# Altium footprint library SOIC-8_INV_HO2.8-1B.PcbLib: 1 footprints
Each footprint in its own frame and in the unit in brackets; x right, y up, seen from the top. Pads: shape width x height; smd on the part's side, far side on the other; paste and mask are expansions set on the pad; w line width, h text height; cw(c..) or ccw(c..) is an arc to the next point about the centre after c.
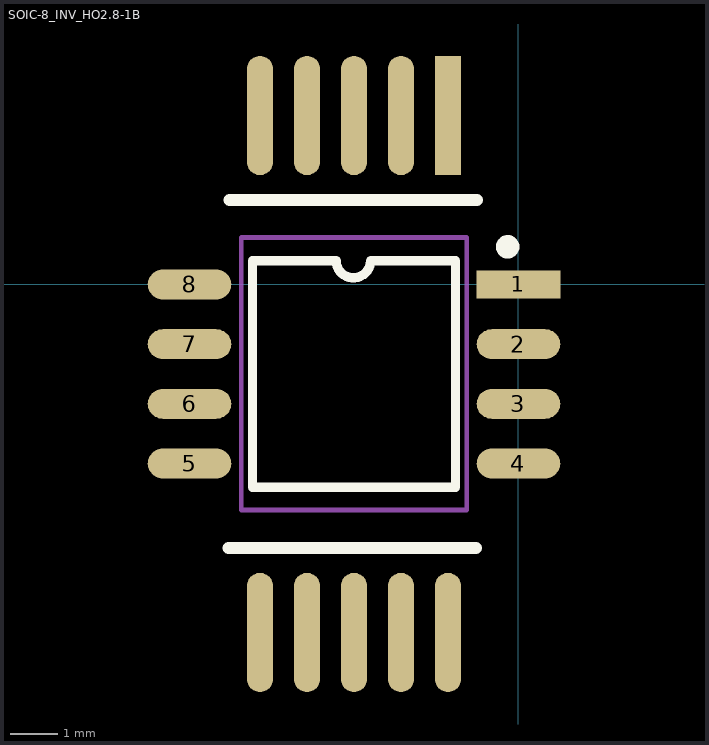
[diagram p0: the footprint, top view; thin cyan lines are the x and y axes]

## SOIC-8_INV_HO2.8-1B [mm]
pads (18):
  rect 1.778x0.6 smd: 1(0,0)
  oval 1.778x0.635 smd: 2(0,-1.27) 3(0,-2.54) 4(0,-3.81) 5(-7,-3.81) 6(-7,-2.54) 7(-7,-1.27) 8(-7,0)
  oval 0.559x2.54 smd: ""(-5.5,-7.405) ""(-5.5,3.595) ""(-4.5,-7.405) ""(-4.5,3.595) ""(-3.5,-7.405) ""(-3.5,3.595) ""(-2.5,-7.405) ""(-2.5,3.595) ""(-1.5,-7.405)
  rect 0.559x2.54 smd: ""(-1.5,3.595)
Top Overlay:
  circle w0.25: c-0.23,0.801 r0.125
  lines w0.2: -3.147,0.508 cw(c-3.514,0.508) -3.881,0.508 -5.659,0.508 -5.659,-4.318 -1.341,-4.318 -1.341,0.508 -3.119,0.508
  lines w0.254: -6.17,-5.605 -0.9,-5.605 ; -6.151,1.795 -0.881,1.795
Mechanical 1:
  lines w0.1: -5.9,-4.8 -1.1,-4.8 -1.1,1 -5.9,1 -5.9,-4.8
3D body "SO-8.step": height 0, standoff -1.45, extent -6.458,-4.318 -0.68,0.584
3D body "N02.8-1B.STEP": height 2.9, standoff 0, extent -6.75,-6.244 -0.25,2.256